# Altium schematic symbol library Wrover_38.SchLib: 4 symbols
Pins are listed as number, name and electrical type; pins without a type are passive.

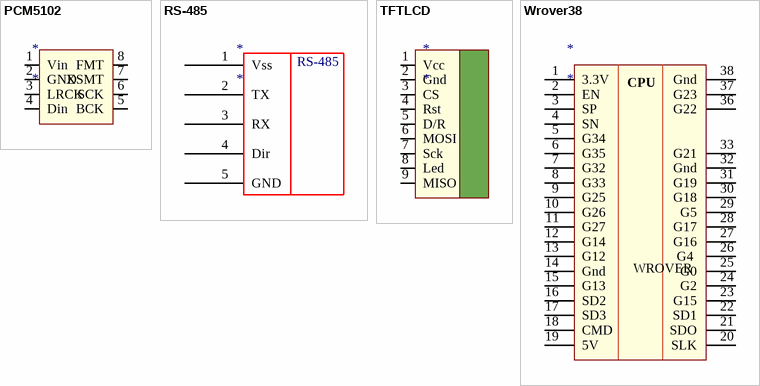
[diagram p0: symbols PCM5102 to Wrover38]

## PCM5102
designator *
pins: 1 Vin, 2 GND, 3 LRCK, 4 Din, 5 BCK, 6 SCK, 7 XSMT, 8 FMT

## RS-485
designator *
pins: 1 Vss, 2 TX, 3 RX, 4 Dir, 5 GND

## TFTLCD
designator *
pins: 1 Vcc "1", 2 Gnd, 3 CS, 4 Rst, 5 D/R, 6 MOSI, 7 Sck, 8 Led, 9 MISO

## Wrover38
designator *
pins: 1 3.3V, 2 EN, 3 SP, 4 SN, 5 G34, 6 G35, 7 G32, 8 G33, 9 G25, 10 G26, 11 G27, 12 G14, 13 G12, 14 Gnd, 15 G13, 16 SD2, 17 SD3, 18 CMD, 19 5V, 20 SLK, 21 SDO, 22 SD1, 23 G15, 24 G2, 25 G0, 26 G4 , 27 G16, 28 G17, 29 G5, 30 G18, 31 G19, 32 Gnd, 33 G21, 36 G22, 37 G23, 38 Gnd
text: CPU; WROVER